# EAGLE library part MAX14431CAEE+ (library Softgalaxy Pi HAT Lib-Eagle)
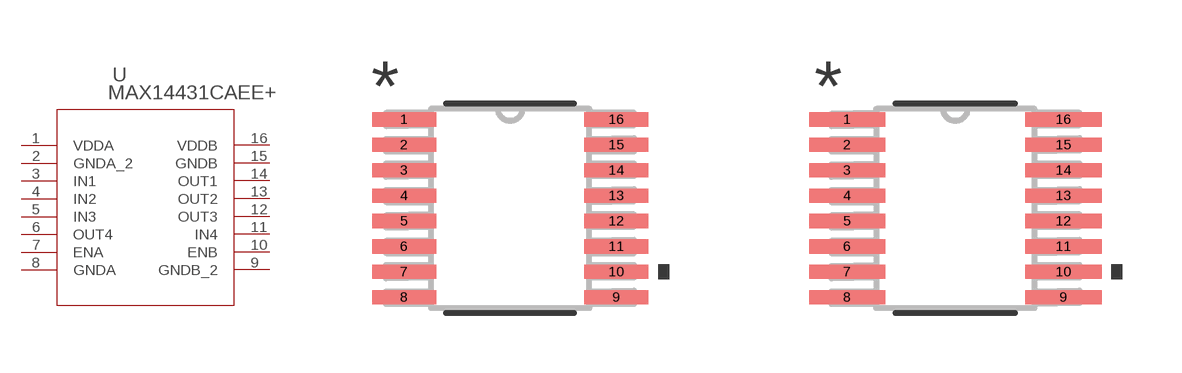
[diagram p7: symbol with the pads of 21-0055Q_E16MS+1F_MXM; footprints 21-0055Q_E16MS+1F_MXM, 21-0055Q_E16MS+1F_MXM-M]

Designator prefix U

## MAX14431CAEE+ (COPYRIGHT: Copyright (C) 2021 Ultra Librarian. All rights reserved.; DIGI-KEY_PART_NUMBER_1: 175-MAX14431CAEE+-ND; MANUFACTURER_PART_NUMBER: MAX14431CAEE+; MFR_NAME: Maxim Integrated Products)  [21-0055Q_E16MS+1F_MXM]
1  VDDA  pwr
2  GNDA_2  pas
3  IN1  in
4  IN2  in
5  IN3  in
6  OUT4  in
7  ENA  pas
8  GNDA  pas
9  GNDB_2  pas
10  ENB  pas
11  IN4  in
12  OUT3  out
13  OUT2  out
14  OUT1  out
15  GNDB  pas
16  VDDB  pwr

## MAX14431CAEE+21-0055Q_E16MS+1F_MXM-M (COPYRIGHT: Copyright (C) 2021 Ultra Librarian. All rights reserved.; DIGI-KEY_PART_NUMBER_1: 175-MAX14431CAEE+-ND; MANUFACTURER_PART_NUMBER: MAX14431CAEE+; MFR_NAME: Maxim Integrated Products)  [21-0055Q_E16MS+1F_MXM-M]
Pads as for 21-0055Q_E16MS+1F_MXM

## MAX14431CAEE+21-0055Q_E16MS+1F_MXM-L (COPYRIGHT: Copyright (C) 2021 Ultra Librarian. All rights reserved.; DIGI-KEY_PART_NUMBER_1: 175-MAX14431CAEE+-ND; MANUFACTURER_PART_NUMBER: MAX14431CAEE+; MFR_NAME: Maxim Integrated Products)  [21-0055Q_E16MS+1F_MXM-L]
Pads as for 21-0055Q_E16MS+1F_MXM

## Footprint 21-0055Q_E16MS+1F_MXM (pad centres in mm)
smd 1.6 x 0.356: 1 -2.654,2.223; 2 -2.654,1.587; 3 -2.654,0.953; 4 -2.654,0.318; 5 -2.654,-0.318; 6 -2.654,-0.953; 7 -2.654,-1.587; 8 -2.654,-2.223; 9 2.654,-2.223; 10 2.654,-1.587; 11 2.654,-0.953; 12 2.654,-0.318; 13 2.654,0.318; 14 2.654,0.953; 15 2.654,1.587; 16 2.654,2.223

## Footprint 21-0055Q_E16MS+1F_MXM-M (pad centres in mm)
smd 1.905 x 0.356: 1 -2.705,2.223; 2 -2.705,1.587; 3 -2.705,0.953; 4 -2.705,0.318; 5 -2.705,-0.318; 6 -2.705,-0.953; 7 -2.705,-1.587; 8 -2.705,-2.223; 9 2.705,-2.223; 10 2.705,-1.587; 11 2.705,-0.953; 12 2.705,-0.318; 13 2.705,0.318; 14 2.705,0.953; 15 2.705,1.587; 16 2.705,2.223

## Footprint 21-0055Q_E16MS+1F_MXM-L (pad centres in mm)
smd 1.295 x 0.305: 1 -2.603,2.223; 2 -2.603,1.587; 3 -2.603,0.953; 4 -2.603,0.318; 5 -2.603,-0.318; 6 -2.603,-0.953; 7 -2.603,-1.587; 8 -2.603,-2.223; 9 2.603,-2.223; 10 2.603,-1.587; 11 2.603,-0.953; 12 2.603,-0.318; 13 2.603,0.318; 14 2.603,0.953; 15 2.603,1.587; 16 2.603,2.223